# EAGLE library part MCP4821 (library IC)
12-bit DACs with Internal VREF and SPI interface
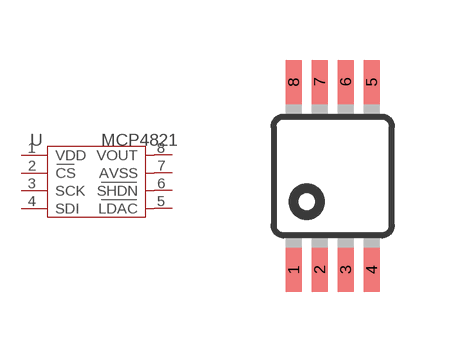
[diagram p181: symbol with the pads of MSOP8; footprint MSOP8]

Designator prefix U

## MCP4821  [MSOP8]
1  VDD  sup
2  CS  in
3  SCK  in
4  SDI  in
5  LDAC  in
6  SHDN  out
7  AVSS  sup
8  VOUT  out

## Footprint MSOP8 (pad centres in mm)
8M, 8-Lead, 0.118" Wide, Miniature Small Outline Package MSOP 8M-Package doc1097.pdf
smd 0.4 x 1.1: 1 -0.975,-2.35; 2 -0.325,-2.35; 3 0.325,-2.35; 4 0.975,-2.35; 5 0.975,2.35; 6 0.325,2.35; 7 -0.325,2.35; 8 -0.975,2.35